# Altium footprint library Main.PcbLib: 60 footprints (part 2 of 4)
Each footprint in its own frame and in the unit in brackets; x right, y up, seen from the top. Pads: shape width x height; smd on the part's side, far side on the other; paste and mask are expansions set on the pad; w line width, h text height; cw(c..) or ccw(c..) is an arc to the next point about the centre after c.
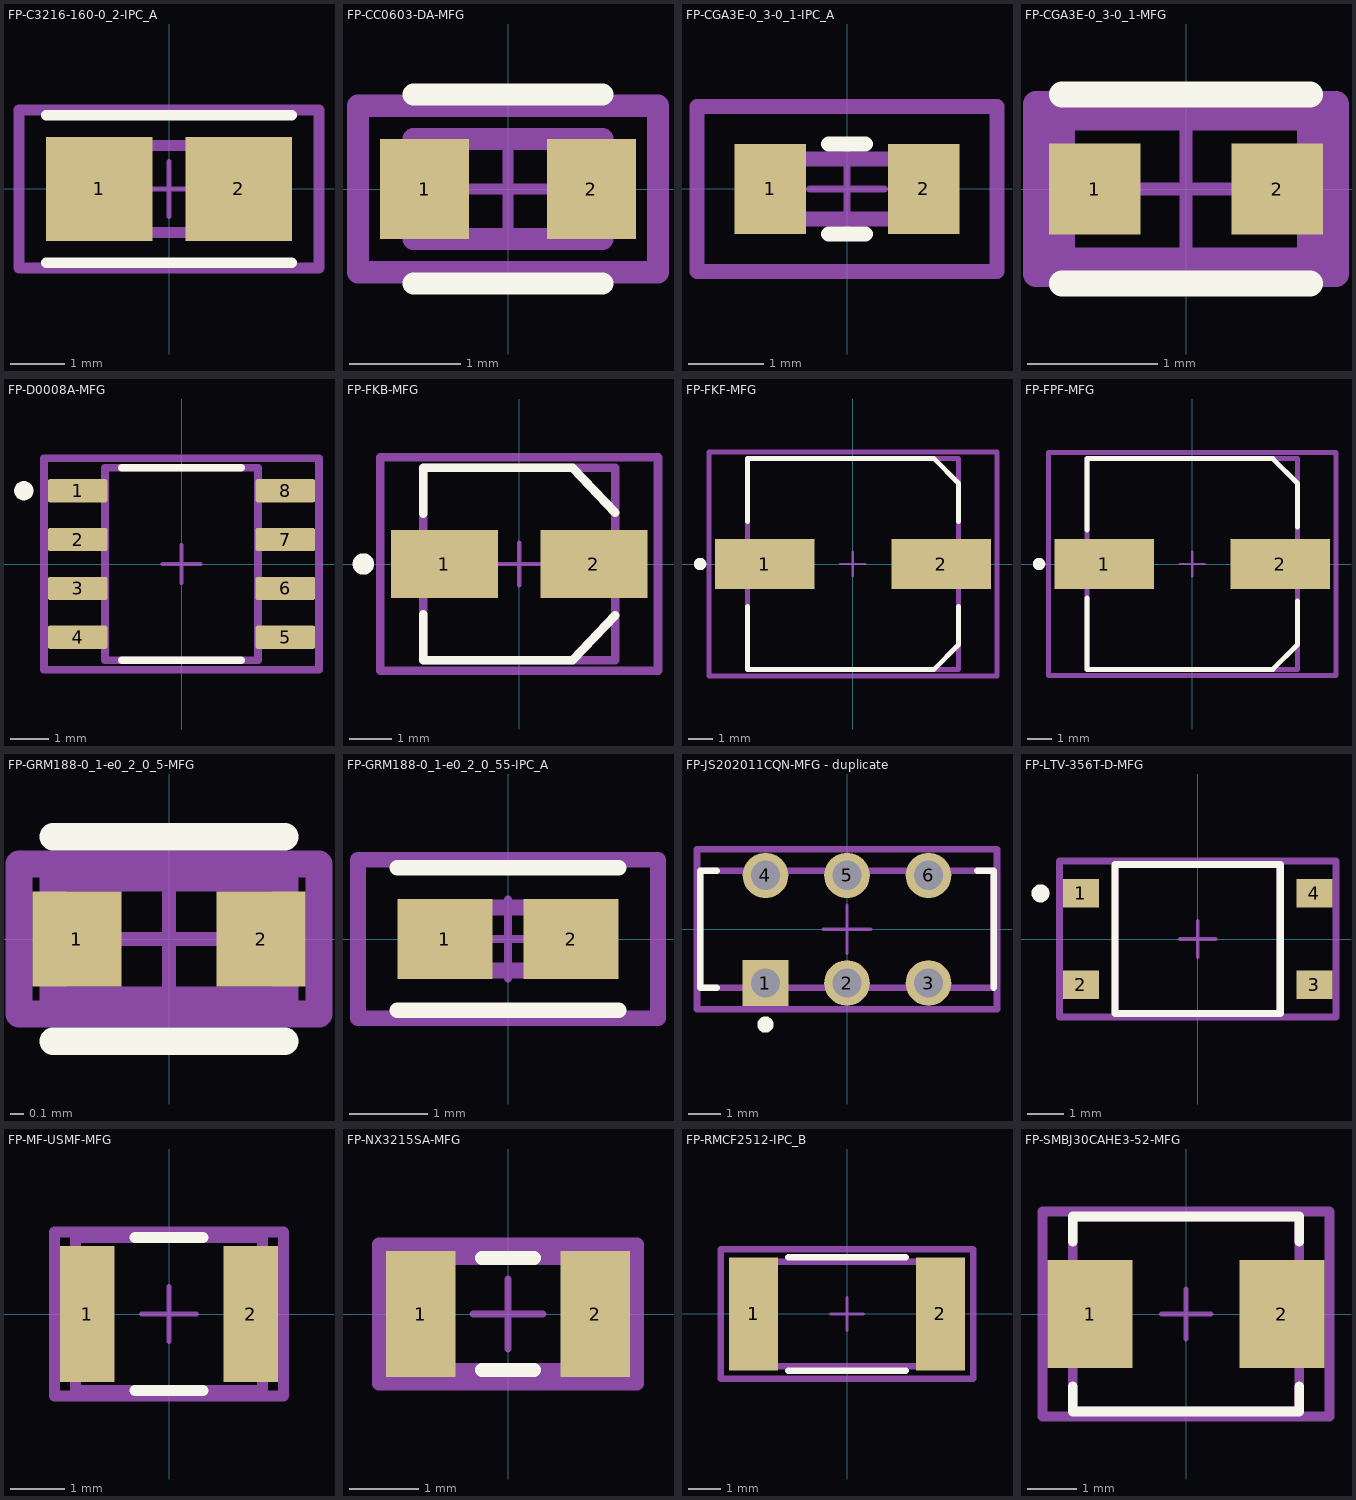
[diagram p1: the footprints below, top view; thin cyan lines are the x and y axes]

## FP-C3216-160-0_2-IPC_A [mm]
pads (2):
  rect 1.954x1.906 smd paste+0 mask+0: 1(-1.276,0) 2(1.276,0)
Top Overlay:
  lines w0.2: -2.253,-1.353 2.253,-1.353 ; -2.253,1.353 2.253,1.353
Top Assembly:
  lines w0.2: -2.753,-1.453 2.753,-1.453 2.753,1.453 -2.753,1.453 -2.753,-1.453
  text ".Designator" at 0,0.188 h1
Top 3D Body:
  lines w0.2: -1.6,-0.8 -1.6,0.8 1.6,0.8 1.6,-0.8 -1.6,-0.8
Top Courtyard:
  lines w0.2: -2.753,-1.453 2.753,-1.453 2.753,1.453 -2.753,1.453 -2.753,-1.453
Top Component Center:
  lines w0.1: -0.5,0 0.5,0 ; 0,-0.5 0,0.5
3D body "Cap_TDK_C3216X7R1C106M160AC_eec.STEP": height 0.25, standoff 0, extent -2.753,-1.453 2.753,1.453

## FP-CC0603-DA-MFG [mm]
pads (2):
  rect 0.8x0.9 smd paste+0 mask+0: 1(-0.75,0) 2(0.75,0)
Top Overlay:
  lines w0.2: -0.85,-0.85 0.85,-0.85 ; -0.85,0.85 0.85,0.85
Top Assembly:
  lines w0.2: -1.35,-0.75 -1.35,0.75 1.35,0.75 1.35,-0.75 -1.35,-0.75
  text ".Designator" at 0,0.188 h1
Top 3D Body:
  lines w0.2: -0.85,-0.45 -0.85,0.45 0.85,0.45 0.85,-0.45 -0.85,-0.45
Top Courtyard:
  lines w0.2: -1.35,-0.75 -1.35,0.75 1.35,0.75 1.35,-0.75 -1.35,-0.75
Top Component Center:
  lines w0.1: -0.5,0 0.5,0 ; 0,-0.5 0,0.5
3D body "Cap_YAGEO_CC0603KRX7R9BB271_eec.STEP": height 0.25, standoff 0, extent -1.35,-0.75 1.35,0.75

## FP-CGA3E-0_3-0_1-IPC_A [mm]
pads (2):
  rect 0.956x1.206 smd paste+0 mask+0: 1(-1.025,0) 2(1.025,0)
Top Overlay:
  lines w0.2: -0.247,-0.603 0.247,-0.603 ; -0.247,0.603 0.247,0.603
Top Assembly:
  lines w0.2: -2.003,-1.103 2.003,-1.103 2.003,1.103 -2.003,1.103 -2.003,-1.103
  text ".Designator" at 0,0.188 h1
Top 3D Body:
  lines w0.2: -0.8,-0.4 0.8,-0.4 0.8,0.4 -0.8,0.4 -0.8,-0.4
Top Courtyard:
  lines w0.2: -2.003,-1.103 2.003,-1.103 2.003,1.103 -2.003,1.103 -2.003,-1.103
Top Component Center:
  lines w0.1: -0.5,0 0.5,0 ; 0,-0.5 0,0.5
3D body "Cap_TDK_CGA3E3X7R1E334K080AB_eec.STEP": height 0.25, standoff 0, extent -2.003,-1.103 2.003,1.103

## FP-CGA3E-0_3-0_1-MFG [mm]
pads (2):
  rect 0.7x0.7 smd paste+0 mask+0: 1(-0.7,0) 2(0.7,0)
Top Overlay:
  lines w0.2: -0.95,-0.725 0.95,-0.725 ; -0.95,0.725 0.95,0.725
Top Assembly:
  lines w0.2: -1.15,-0.65 -1.15,0.65 1.15,0.65 1.15,-0.65 -1.15,-0.65
  text ".Designator" at 0,0.188 h1
Top 3D Body:
  lines w0.2: -0.95,-0.55 -0.95,0.55 0.95,0.55 0.95,-0.55 -0.95,-0.55
Top Courtyard:
  lines w0.2: -1.15,-0.65 -1.15,0.65 1.15,0.65 1.15,-0.65 -1.15,-0.65
Top Component Center:
  lines w0.1: -0.5,0 0.5,0 ; 0,-0.5 0,0.5
3D body "Cap_TDK_CGA3E3X7R1E334K080AB_eec.STEP": height 0.25, standoff 0, extent -1.15,-0.65 1.15,0.65

## FP-D0008A-MFG [mm]
pads (8):
  rrect17% 1.55x0.6 smd paste+0 mask+0: 1(-2.7,1.905) 2(-2.7,0.635) 3(-2.7,-0.635) 4(-2.7,-1.905) 5(2.7,-1.905) 6(2.7,-0.635) 7(2.7,0.635) 8(2.7,1.905)
Top Overlay:
  circle w0.25: c-4.1,1.905 r0.125
  lines w0.2: -1.55,-2.5 1.55,-2.5 ; -1.55,2.5 1.55,2.5
Top Assembly:
  lines w0.2: -3.575,-2.75 3.575,-2.75 3.575,2.75 -3.575,2.75 -3.575,-2.75
  text ".Designator" at 0,0.188 h1
Top 3D Body:
  lines w0.2: -1.99,-2.5 1.99,-2.5 1.99,2.5 -1.99,2.5 -1.99,-2.5
Top Courtyard:
  lines w0.2: -3.575,-2.75 3.575,-2.75 3.575,2.75 -3.575,2.75 -3.575,-2.75
Top Component Center:
  lines w0.1: -0.5,0 0.5,0 ; 0,-0.5 0,0.5
3D body "IC_Texas_Instruments_ISO1540DR_eec.STEP": height 0.25, standoff 0, extent -3.575,-2.75 3.575,2.75

## FP-FKB-MFG [mm]
pads (2):
  rect 2.5x1.6 smd paste+0 mask+0: 1(-1.75,0) 2(1.75,0)
Top Overlay:
  circle w0.25: c-3.65,0 r0.125
  lines w0.2: -2.25,-1.175 -2.25,-2.25 1.25,-2.25 2.25,-1.2 ; -2.25,1.175 -2.25,2.25 1.25,2.25 2.25,1.2
Top Assembly:
  lines w0.2: -3.25,-2.5 3.25,-2.5 3.25,2.5 -3.25,2.5 -3.25,-2.5
  text ".Designator" at 0,0.188 h1
Top 3D Body:
  lines w0.2: -2.25,-2.25 2.25,-2.25 2.25,2.25 -2.25,2.25 -2.25,-2.25
Top Courtyard:
  lines w0.2: -3.25,-2.5 3.25,-2.5 3.25,2.5 -3.25,2.5 -3.25,-2.5
Top Component Center:
  lines w0.1: -0.5,0 0.5,0 ; 0,-0.5 0,0.5
3D body "Cap_Panasonic_EEEFK1E100R_eec.STEP": height 0.25, standoff 0, extent -3.25,-2.5 3.25,2.5

## FP-FKF-MFG [mm]
pads (2):
  rect 4x2 smd paste+0 mask+0: 1(-3.55,0) 2(3.55,0)
Top Overlay:
  circle w0.25: c-6.15,0 r0.125
  lines w0.2: -4.25,-1.7 -4.25,-4.25 3.25,-4.25 4.25,-3.25 4.25,-1.7 ; -4.25,1.7 -4.25,4.25 3.25,4.25 4.25,3.25 4.25,1.7
Top Assembly:
  lines w0.2: -5.8,-4.5 -5.8,4.5 5.8,4.5 5.8,-4.5 -5.8,-4.5
  text ".Designator" at 0,0.188 h1
Top 3D Body:
  lines w0.2: -4.25,-4.25 -4.25,4.25 4.25,4.25 4.25,-4.25 -4.25,-4.25
Top Courtyard:
  lines w0.2: -5.8,-4.5 -5.8,4.5 5.8,4.5 5.8,-4.5 -5.8,-4.5
Top Component Center:
  lines w0.1: -0.5,0 0.5,0 ; 0,-0.5 0,0.5
3D body "Cap_Panasonic_Electronic_Components_EEE-FK1H101GP_eec.STEP": height 0.25, standoff 0, extent -5.8,-4.5 5.8,4.5

## FP-FPF-MFG [mm]
pads (2):
  rect 4x2 smd paste+0 mask+0: 1(-3.55,0) 2(3.55,0)
Top Overlay:
  circle w0.25: c-6.175,0 r0.125
  lines w0.2: -4.25,-1.375 -4.25,-4.25 3.25,-4.25 4.25,-3.25 4.25,-1.5 ; -4.25,1.375 -4.25,4.25 3.25,4.25 4.25,3.25 4.25,1.5
Top Assembly:
  lines w0.2: -5.8,-4.5 -5.8,4.5 5.8,4.5 5.8,-4.5 -5.8,-4.5
  text ".Designator" at 0,0.188 h1
Top 3D Body:
  lines w0.2: -4.25,-4.25 -4.25,4.25 4.25,4.25 4.25,-4.25 -4.25,-4.25
Top Courtyard:
  lines w0.2: -5.8,-4.5 -5.8,4.5 5.8,4.5 5.8,-4.5 -5.8,-4.5
Top Component Center:
  lines w0.1: -0.5,0 0.5,0 ; 0,-0.5 0,0.5
3D body "Cap_Panasonic_Electronic_Components_EEE-FP1V101AP_eec.STEP": height 0.25, standoff 0, extent -5.8,-4.5 5.8,4.5

## FP-GRM188-0_1-e0_2_0_5-MFG [mm]
pads (2):
  rect 0.65x0.7 smd paste+0 mask+0: 1(-0.675,0) 2(0.675,0)
Top Overlay:
  lines w0.2: -0.85,-0.75 0.85,-0.75 ; -0.85,0.75 0.85,0.75
Top Assembly:
  lines w0.2: -1.1,-0.55 1.1,-0.55 1.1,0.55 -1.1,0.55 -1.1,-0.55
  text ".Designator" at 0,0.188 h1
Top 3D Body:
  lines w0.2: -0.85,-0.45 -0.85,0.45 0.85,0.45 0.85,-0.45 -0.85,-0.45
Top Courtyard:
  lines w0.2: -1.1,-0.55 1.1,-0.55 1.1,0.55 -1.1,0.55 -1.1,-0.55
Top Component Center:
  lines w0.1: -0.5,0 0.5,0 ; 0,-0.5 0,0.5
3D body "Cap_Murata_GRM188R61E225KA12D_eec.STEP": height 0.25, standoff 0, extent -1.1,-0.55 1.1,0.55

## FP-GRM188-0_1-e0_2_0_55-IPC_A [mm]
pads (2):
  rect 1.208x1.012 smd paste+0 mask+0: 1(-0.802,0) 2(0.802,0)
Top Overlay:
  lines w0.2: -1.406,-0.906 1.406,-0.906 ; -1.406,0.906 1.406,0.906
Top Assembly:
  lines w0.2: -1.906,-1.006 1.906,-1.006 1.906,1.006 -1.906,1.006 -1.906,-1.006
  text ".Designator" at 0,0.188 h1
Top 3D Body:
  lines w0.2: -0.8,-0.4 0.8,-0.4 0.8,0.4 -0.8,0.4 -0.8,-0.4
Top Courtyard:
  lines w0.2: -1.906,-1.006 1.906,-1.006 1.906,1.006 -1.906,1.006 -1.906,-1.006
Top Component Center:
  lines w0.1: -0.5,0 0.5,0 ; 0,-0.5 0,0.5
3D body "Cap_Murata_GRM188R60J106KE47D_eec.STEP": height 0.25, standoff 0, extent -1.906,-1.006 1.906,1.006

## FP-JS202011CQN-MFG - duplicate [mm]
height 5.08
pads (6):
  rect 1.4x1.4 hole 0.9 paste-2539.97 mask+0: 1(-2.5,-1.65)
  round 1.4 hole 0.9 paste-2539.97 mask+0: 2(0,-1.65) 3(2.5,-1.65) 4(-2.5,1.65) 5(0,1.65) 6(2.5,1.65)
Top Overlay:
  circle w0.25: c-2.5,-2.925 r0.125
  lines w0.2: -4,-1.8 -4.5,-1.8 -4.5,1.8 -4,1.8 ; 4,1.8 4.5,1.8 4.5,-1.8
Top Assembly:
  lines w0.2: -4.6,-2.45 4.6,-2.45 4.6,2.45 -4.6,2.45 -4.6,-2.45
  text ".Designator" at 0,-0.001 h1
Top 3D Body:
  lines w0.2: -4.5,-1.8 4.5,-1.8 4.5,1.8 -4.5,1.8 -4.5,-1.8
Top Courtyard:
  lines w0.2: -4.6,-2.45 4.6,-2.45 4.6,2.45 -4.6,2.45 -4.6,-2.45
Top Component Center:
  lines w0.1: -0.735,0 0.735,0 ; 0,-0.735 0,0.735
3D body "Switch_C&K_JS202011CQN_eec.STEP": height 0.25, standoff 0, extent -4.6,-2.45 4.6,2.45

## FP-LTV-356T-D-MFG [mm]
pads (4):
  rect 1x0.8 smd paste+0 mask+0: 1(-3.25,1.27) 2(-3.25,-1.27) 3(3.25,-1.27) 4(3.25,1.27)
Top Overlay:
  circle w0.25: c-4.375,1.27 r0.125
  lines w0.2: -2.3,-2.075 2.3,-2.075 2.3,2.075 -2.3,2.075 -2.3,-2.075
Top Assembly:
  lines w0.2: -3.85,-2.175 3.85,-2.175 3.85,2.175 -3.85,2.175 -3.85,-2.175
Top 3D Body:
  lines w0.2: -2.3,-2.075 2.3,-2.075 2.3,2.075 -2.3,2.075 -2.3,-2.075
Top Courtyard:
  lines w0.2: -3.85,-2.175 3.85,-2.175 3.85,2.175 -3.85,2.175 -3.85,-2.175
Top Component Center:
  lines w0.1: -0.5,0 0.5,0 ; 0,-0.5 0,0.5
3D body "Trans_Lite-On_LTV-356T-D_eec.STEP": height 0.25, standoff 0, extent -3.85,-2.175 3.85,2.175

## FP-MF-USMF-MFG [mm]
pads (2):
  rect 1x2.5 smd paste+0 mask+0: 1(-1.5,0) 2(1.5,0)
Top Overlay:
  lines w0.2: -0.625,-1.4 0.625,-1.4 ; -0.625,1.4 0.625,1.4
Top Assembly:
  lines w0.2: -2.1,-1.5 2.1,-1.5 2.1,1.5 -2.1,1.5 -2.1,-1.5
  text ".Designator" at 0,0.188 h1
Top 3D Body:
  lines w0.2: -1.715,-1.4 -1.715,1.4 1.715,1.4 1.715,-1.4 -1.715,-1.4
Top Courtyard:
  lines w0.2: -2.1,-1.5 2.1,-1.5 2.1,1.5 -2.1,1.5 -2.1,-1.5
Top Component Center:
  lines w0.1: -0.5,0 0.5,0 ; 0,-0.5 0,0.5
3D body "Fuse_Bourns_Inc_MF-USMF020-2_eec.STEP": height 0.25, standoff 0, extent -2.1,-1.5 2.1,1.5

## FP-NX3215SA-MFG [mm]
pads (2):
  rect 1x1.8 smd paste+0 mask+0: 1(-1.25,0) 2(1.25,0)
Top Overlay:
  lines w0.2: -0.375,-0.8 0.375,-0.8 ; -0.375,0.8 0.375,0.8
Top Assembly:
  lines w0.2: -1.85,-1 -1.85,1 1.85,1 1.85,-1 -1.85,-1
  text ".Designator" at 0,0.188 h1
Top 3D Body:
  lines w0.2: -1.65,-0.8 1.65,-0.8 1.65,0.8 -1.65,0.8 -1.65,-0.8
Top Courtyard:
  lines w0.2: -1.85,-1 -1.85,1 1.85,1 1.85,-1 -1.85,-1
Top Component Center:
  lines w0.1: -0.5,0 0.5,0 ; 0,-0.5 0,0.5
3D body "Crys_NDK_NX3215SA-32_768K-STD-MUS-2_eec.STEP": height 0.25, standoff 0, extent -1.85,-1 1.85,1

## FP-RMCF2512-IPC_B [mm]
pads (2):
  rect 1.504x3.455 smd paste+0 mask+0: 1(-2.851,0) 2(2.851,0)
Top Overlay:
  lines w0.2: -1.799,-1.727 1.799,-1.727 ; -1.799,1.727 1.799,1.727
Top Assembly:
  lines w0.2: -3.853,-1.977 -3.853,1.977 3.853,1.977 3.853,-1.977 -3.853,-1.977
  text ".Designator" at 0,0.188 h1
Top 3D Body:
  lines w0.2: -3.15,-1.6 3.15,-1.6 3.15,1.6 -3.15,1.6 -3.15,-1.6
Top Courtyard:
  lines w0.2: -3.853,-1.977 -3.853,1.977 3.853,1.977 3.853,-1.977 -3.853,-1.977
Top Component Center:
  lines w0.1: -0.5,0 0.5,0 ; 0,-0.5 0,0.5
3D body "Res_Stackpole_RMCF2512FT10M0_eec.STEP": height 0.25, standoff 0, extent -3.853,-1.977 3.853,1.977

## FP-SMBJ30CAHE3-52-MFG [mm]
pads (2):
  rect 1.716x2.18 smd paste+0 mask+0: 1(-1.937,0) 2(1.937,0)
Top Overlay:
  lines w0.2: -2.285,-1.465 -2.285,-1.97 2.285,-1.97 2.285,-1.465 ; -2.285,1.465 -2.285,1.97 2.285,1.97 2.285,1.465
Top Assembly:
  lines w0.2: -2.895,-2.07 2.895,-2.07 2.895,2.07 -2.895,2.07 -2.895,-2.07
Top 3D Body:
  lines w0.2: -2.285,-1.97 2.285,-1.97 2.285,1.97 -2.285,1.97 -2.285,-1.97
Top Courtyard:
  lines w0.2: -2.895,-2.07 2.895,-2.07 2.895,2.07 -2.895,2.07 -2.895,-2.07
Top Component Center:
  lines w0.1: -0.5,0 0.5,0 ; 0,-0.5 0,0.5
3D body "Diode_Vishay_Semiconductor_Diodes_Division_SMBJ30CAHE3-52_eec.STEP": height 0.25, standoff 0, extent -2.895,-2.07 2.895,2.07